# Altium footprint library KLD-0202.PcbLib: 1 footprints
Each footprint in its own frame and in the unit in brackets; x right, y up, seen from the top. Pads: shape width x height; smd on the part's side, far side on the other; paste and mask are expansions set on the pad; w line width, h text height; cw(c..) or ccw(c..) is an arc to the next point about the centre after c.
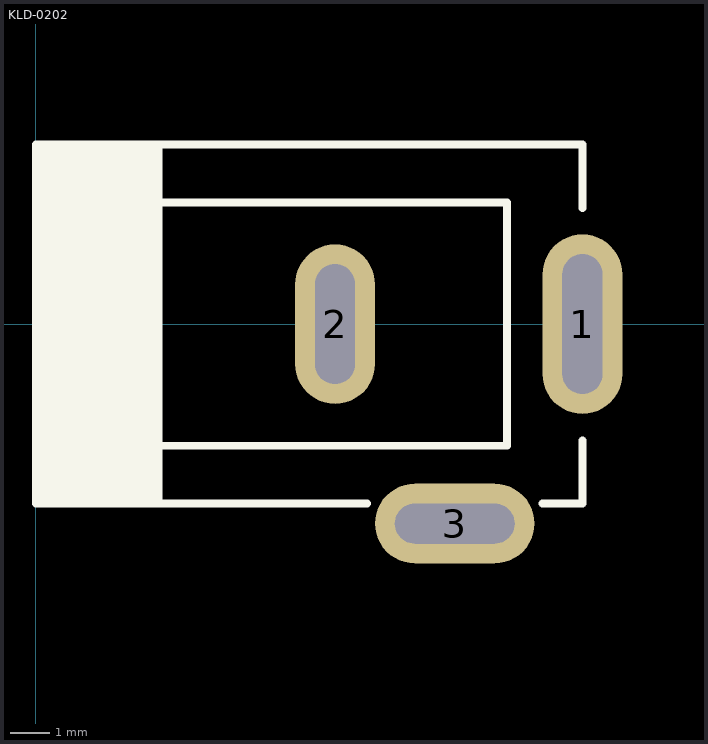
[diagram p0: the footprint, top view; thin cyan lines are the x and y axes]

## KLD-0202 [mm]
pads (3):
  oval 2x4.5 hole 1 slot 3.5 at 90 deg: 1(13.7,0)
  oval 2x4 hole 1 slot 3 at 90 deg: 2(7.5,0)
  oval 4x2 hole 1 slot 3 at 0 deg: 3(10.5,-5)
Top Overlay:
  rectangle: 0,-4.5 3.175,4.5
  lines w0.2: 0,-3.048 11.811,-3.048 11.811,3.048 0,3.048 ; 8.3,-4.5 0,-4.5 ; 13.7,-2.917 13.7,-4.5 ; 13.7,2.917 13.7,4.5 ; 0,-4.5 0,4.5 ; 0,-4.5 0,4.5 ; 0,4.5 13.7,4.5 ; 0,4.5 13.7,4.5 ; 13.7,-4.5 12.7,-4.5 13.7,-4.5
Mechanical 1:
  lines w1: 7.5,-1 7.5,1 ; 9.5,-5 11.5,-5 ; 13.7,-1.2 13.7,1.2